# Altium schematic symbol library A3PE600_PLUGA_V2.Schlib: 1 symbol
Pins are listed as number, name and electrical type; pins without a type are passive.

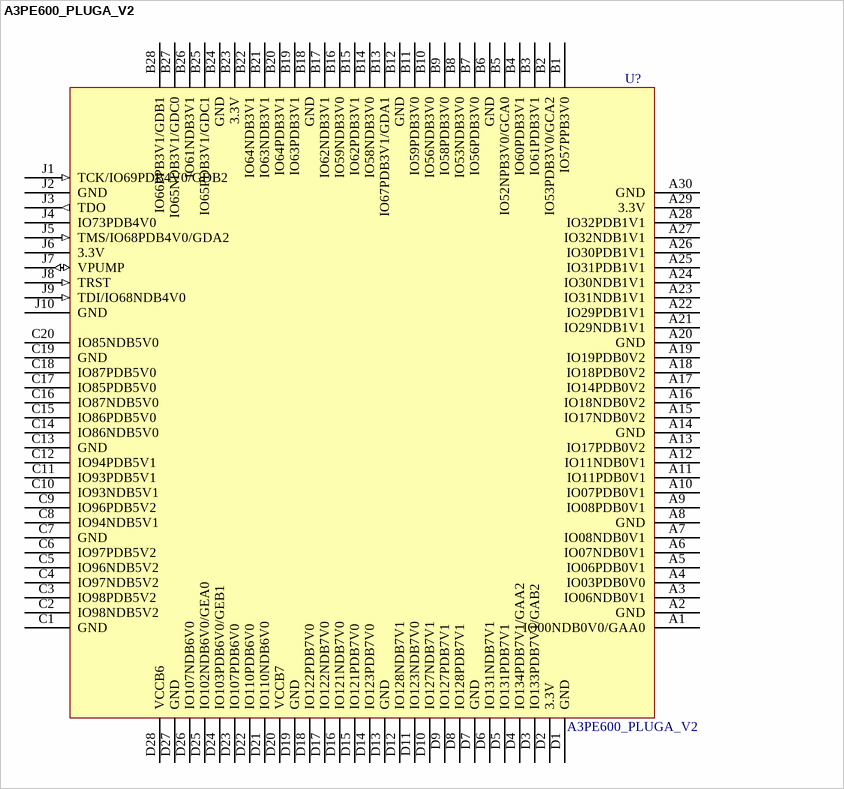
[diagram p0: symbol A3PE600_PLUGA_V2]

## A3PE600_PLUGA_V2
designator U?
Назначение: A3PE600 - мезанин; Наименование: A3PE600
footprint A3PE600_PLUGA_V2 (Footprint not found)
pins: A1 IO00NDB0V0/GAA0 (hiz), A2 GND (power), A3 IO06NDB0V1 (hiz), A4 IO03PDB0V0 (hiz), A5 IO06PDB0V1 (hiz), A6 IO07NDB0V1 (hiz), A7 IO08NDB0V1 (hiz), A8 GND (power), A9 IO08PDB0V1 (hiz), A10 IO07PDB0V1 (hiz), A11 IO11PDB0V1 (hiz), A12 IO11NDB0V1 (hiz), A13 IO17PDB0V2 (hiz), A14 GND (power), A15 IO17NDB0V2 (hiz), A16 IO18NDB0V2 (hiz), A17 IO14PDB0V2 (hiz), A18 IO18PDB0V2 (hiz), A19 IO19PDB0V2 (hiz), A20 GND (power), A21 IO29NDB1V1 (hiz), A22 IO29PDB1V1 (hiz), A23 IO31NDB1V1 (hiz), A24 IO30NDB1V1 (hiz), A25 IO31PDB1V1 (hiz), A26 IO30PDB1V1 (hiz), A27 IO32NDB1V1 (hiz), A28 IO32PDB1V1 (hiz), A29 3.3V (power), A30 GND (power), B1 IO57PPB3V0 (hiz), B2 IO53PDB3V0/GCA2 (hiz), B3 IO61PDB3V1 (hiz), B4 IO60PDB3V1 (hiz), B5 IO52NPB3V0/GCA0 (hiz), B6 GND (power), B7 IO56PDB3V0 (hiz), B8 IO53NDB3V0 (hiz), B9 IO58PDB3V0 (hiz), B10 IO56NDB3V0 (hiz), B11 IO59PDB3V0 (hiz), B12 GND (power), B13 IO67PDB3V1/GDA1 (hiz), B14 IO58NDB3V0 (hiz), B15 IO62PDB3V1 (hiz), B16 IO59NDB3V0 (hiz), B17 IO62NDB3V1 (hiz), B18 GND (power), B19 IO63PDB3V1 (hiz), B20 IO64PDB3V1 (hiz), B21 IO63NDB3V1 (hiz), B22 IO64NDB3V1 (hiz), B23 3.3V (power), B24 GND (power), B25 IO65PDB3V1/GDC1 (hiz), B26 IO61NDB3V1 (hiz), B27 IO65NDB3V1/GDC0 (hiz), B28 IO66PPB3V1/GDB1 (hiz), C1 GND (power), C2 IO98NDB5V2 (hiz), C3 IO98PDB5V2 (hiz), C4 IO97NDB5V2 (hiz), C5 IO96NDB5V2 (hiz), C6 IO97PDB5V2 (hiz), C7 GND (power), C8 IO94NDB5V1 (hiz), C9 IO96PDB5V2 (hiz), C10 IO93NDB5V1 (hiz), C11 IO93PDB5V1 (hiz), C12 IO94PDB5V1 (hiz), C13 GND (power), C14 IO86NDB5V0 (hiz), C15 IO86PDB5V0 (hiz), C16 IO87NDB5V0 (hiz), C17 IO85PDB5V0 (hiz), C18 IO87PDB5V0 (hiz), C19 GND (power), C20 IO85NDB5V0 (hiz), D1 GND (power), D2 3.3V (power), D3 IO133PDB7V1/GAB2 (hiz), D4 IO134PDB7V1/GAA2 (hiz), D5 IO131PDB7V1 (hiz), D6 IO131NDB7V1 (hiz), D7 GND (power), D8 IO128PDB7V1 (hiz), D9 IO127PDB7V1 (hiz), D10 IO127NDB7V1 (hiz), D11 IO123NDB7V0 (hiz), D12 IO128NDB7V1 (hiz), D13 GND (power), D14 IO123PDB7V0 (hiz), D15 IO121PDB7V0 (hiz), D16 IO121NDB7V0 (hiz), D17 IO122NDB7V0 (hiz), D18 IO122PDB7V0 (hiz), D19 GND (power), D20 VCCB7 (power), D21 IO110NDB6V0, D22 IO110PDB6V0, D23 IO107PDB6V0, D24 IO103PDB6V0/GEB1, D25 IO102NDB6V0/GEA0, D26 IO107NDB6V0, D27 GND, D28 VCCB6, J1 TCK/IO69PDB4V0/GDB2 (in), J2 GND (power), J3 TDO (out), J4 IO73PDB4V0 (hiz), J5 TMS/IO68PDB4V0/GDA2 (in), J6 3.3V (power), J7 VPUMP (io), J8 TRST (in), J9 TDI/IO68NDB4V0 (in), J10 GND (power)